# Altium footprint library CherryMXLED_Footprints.PCBLIB: 12 footprints
Each footprint in its own frame and in the unit in brackets; x right, y up, seen from the top. Pads: shape width x height; smd on the part's side, far side on the other; paste and mask are expansions set on the pad; w line width, h text height; cw(c..) or ccw(c..) is an arc to the next point about the centre after c.
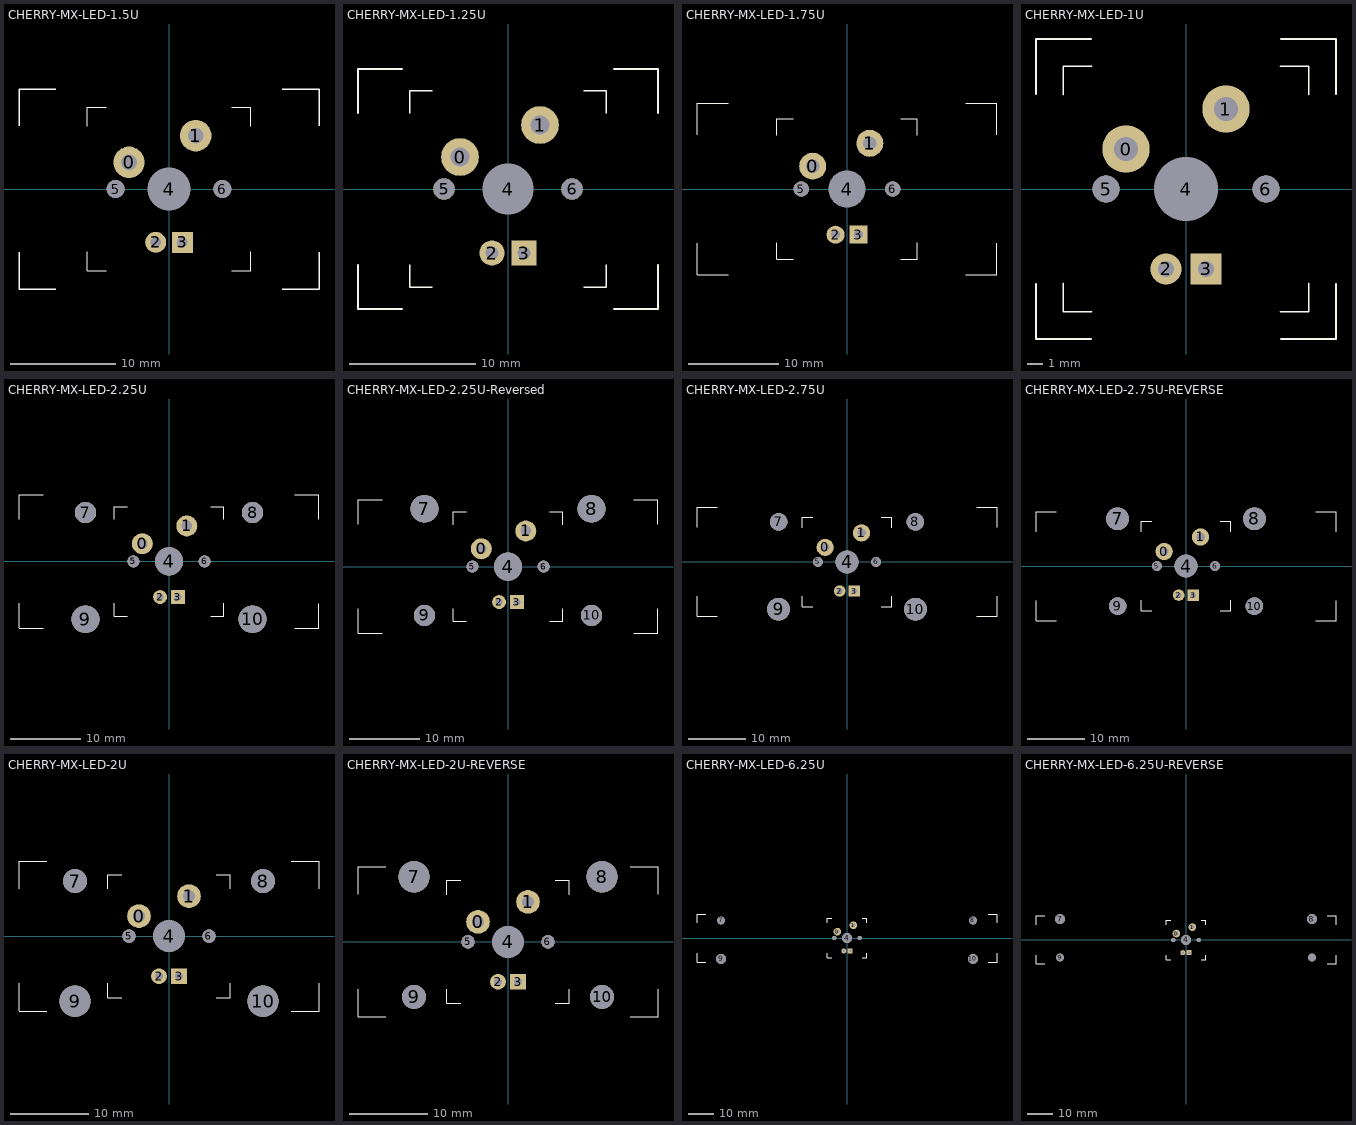
[diagram p0: the footprints below, top view; thin cyan lines are the x and y axes]

## CHERRY-MX-LED-1.5U [mm]
pads (7):
  round 3 hole 1.5: 0(-3.81,2.54) 1(2.54,5.08)
  round 2 hole 1: 2(-1.27,-5.08)
  rect 2x2 hole 1: 3(1.27,-5.08)
  round 4 hole 4.064 unplated mask+0: 4(0,0)
  round 1.702 hole 1.702 unplated mask+0: 5(-5.08,0) 6(5.08,0)
Top Overlay:
  lines w0.1: -7.8,-6 -7.8,-7.8 -6,-7.8 ; -7.8,6 -7.8,7.8 -6,7.8 ; 6,-7.8 7.8,-7.8 7.8,-6 ; 6,7.8 7.8,7.8 7.8,6
  lines w0.127: -14.287,-6.025 -14.287,-9.525 -10.787,-9.525 ; -14.287,6.025 -14.287,9.525 -10.787,9.525 ; 10.787,-9.525 14.287,-9.525 14.287,-6.025 ; 10.787,9.525 14.287,9.525 14.287,6.025

## CHERRY-MX-LED-1.25U [mm]
pads (7):
  round 3 hole 1.5: 0(-3.81,2.54) 1(2.54,5.08)
  round 2 hole 1: 2(-1.27,-5.08)
  rect 2x2 hole 1: 3(1.27,-5.08)
  round 4 hole 4.064 unplated mask+0: 4(0,0)
  round 1.702 hole 1.702 unplated mask+0: 5(-5.08,0) 6(5.08,0)
Top Overlay:
  lines w0.1: -7.8,-6 -7.8,-7.8 -6,-7.8 ; -7.8,6 -7.8,7.8 -6,7.8 ; 6,-7.8 7.8,-7.8 7.8,-6 ; 6,7.8 7.8,7.8 7.8,6
  lines w0.127: -11.906,-6.025 -11.906,-9.525 -8.406,-9.525 ; -11.906,6.025 -11.906,9.525 -8.406,9.525 ; 8.406,-9.525 11.906,-9.525 11.906,-6.025 ; 8.406,9.525 11.906,9.525 11.906,6.025

## CHERRY-MX-LED-1.75U [mm]
pads (7):
  round 3 hole 1.5: 0(-3.81,2.54) 1(2.54,5.08)
  round 2 hole 1: 2(-1.27,-5.08)
  rect 2x2 hole 1: 3(1.27,-5.08)
  round 4 hole 4.064 unplated mask+0: 4(0,0)
  round 1.702 hole 1.702 unplated mask+0: 5(-5.08,0) 6(5.08,0)
Top Overlay:
  lines w0.1: -7.8,-6 -7.8,-7.8 -6,-7.8 ; -7.8,6 -7.8,7.8 -6,7.8 ; 6,-7.8 7.8,-7.8 7.8,-6 ; 6,7.8 7.8,7.8 7.8,6
  lines w0.127: -16.669,-6.025 -16.669,-9.525 -13.169,-9.525 ; -16.669,6.025 -16.669,9.525 -13.169,9.525 ; 13.169,-9.525 16.669,-9.525 16.669,-6.025 ; 13.169,9.525 16.669,9.525 16.669,6.025

## CHERRY-MX-LED-1U [mm]
pads (7):
  round 3 hole 1.5: 0(-3.81,2.54) 1(2.54,5.08)
  round 2 hole 1: 2(-1.27,-5.08)
  rect 2x2 hole 1: 3(1.27,-5.08)
  round 4 hole 4.064 unplated mask+0: 4(0,0)
  round 1.702 hole 1.702 unplated mask+0: 5(-5.08,0) 6(5.08,0)
Top Overlay:
  lines w0.1: -7.8,-6 -7.8,-7.8 -6,-7.8 ; -7.8,6 -7.8,7.8 -6,7.8 ; 6,-7.8 7.8,-7.8 7.8,-6 ; 6,7.8 7.8,7.8 7.8,6
  lines w0.127: -9.525,-6.025 -9.525,-9.525 -6.025,-9.525 ; -9.525,6.025 -9.525,9.525 -6.025,9.525 ; 6.025,-9.525 9.525,-9.525 9.525,-6.025 ; 6.025,9.525 9.525,9.525 9.525,6.025

## CHERRY-MX-LED-2.25U [mil]
pads (11):
  round 118.11 hole 59.06: 0(-150,100) 1(100,200)
  round 78.74 hole 39.37: 2(-50,-200)
  rect 78.74x78.74 hole 39.37: 3(50,-200)
  round 157.48 hole 160 unplated mask+0: 4(0,0)
  round 67 hole 67 unplated mask+0: 5(-200,0) 6(200,0)
  round 120 hole 120 unplated paste+0 mask+0: 7(-470,275) 8(470,275)
  round 157 hole 157 unplated paste+0 mask+0: 9(-470,-325) 10(470,-325)
Top Overlay:
  lines w3.94: -307.09,-236.22 -307.09,-307.09 -236.22,-307.09 ; -307.09,236.22 -307.09,307.09 -236.22,307.09 ; 236.22,-307.09 307.09,-307.09 307.09,-236.22 ; 236.22,307.09 307.09,307.09 307.09,236.22
  lines w5: -843.75,-375 -705.95,-375 ; -843.75,-374.02 -843.75,-236.22 ; -843.75,237.2 -843.75,375 -705.95,375 ; 705.95,-375 843.75,-375 843.75,-237.2 ; 705.95,375 843.75,375 843.75,237.2

## CHERRY-MX-LED-2.25U-Reversed [mil]
pads (11):
  round 118.11 hole 59.06: 0(-150,100) 1(100,200)
  round 78.74 hole 39.37: 2(-50,-200)
  rect 78.74x78.74 hole 39.37: 3(50,-200)
  round 157.48 hole 160 unplated mask+0: 4(0,0)
  round 67 hole 67 unplated mask+0: 5(-200,0) 6(200,0)
  round 157 hole 157 unplated paste+0 mask+0: 7(-470,325) 8(470,325)
  round 120 hole 120 unplated paste+0 mask+0: 9(-470,-275) 10(470,-275)
Top Overlay:
  lines w3.94: -307.09,-236.22 -307.09,-307.09 -236.22,-307.09 ; -307.09,236.22 -307.09,307.09 -236.22,307.09 ; 236.22,-307.09 307.09,-307.09 307.09,-236.22 ; 236.22,307.09 307.09,307.09 307.09,236.22
  lines w5: -843.75,-375 -705.95,-375 ; -843.75,-374.02 -843.75,-236.22 ; -843.75,237.2 -843.75,375 -705.95,375 ; 705.95,-375 843.75,-375 843.75,-237.2 ; 705.95,375 843.75,375 843.75,237.2

## CHERRY-MX-LED-2.75U [mil]
pads (11):
  round 118.11 hole 59.06: 0(-150,100) 1(100,200)
  round 78.74 hole 39.37: 2(-50,-200)
  rect 78.74x78.74 hole 39.37: 3(50,-200)
  round 157.48 hole 160 unplated mask+0: 4(0,0)
  round 67 hole 67 unplated mask+0: 5(-200,0) 6(200,0)
  round 120 hole 120 unplated paste+0 mask+0: 7(-470,275) 8(470,275)
  round 157 hole 157 unplated paste+0 mask+0: 9(-470,-325) 10(470,-325)
Top Overlay:
  lines w3.94: -307.09,-236.22 -307.09,-307.09 -236.22,-307.09 ; -307.09,236.22 -307.09,307.09 -236.22,307.09 ; 236.22,-307.09 307.09,-307.09 307.09,-236.22 ; 236.22,307.09 307.09,307.09 307.09,236.22
  lines w5: -1031.25,-237.2 -1031.25,-375 -893.45,-375 ; -1031.25,237.2 -1031.25,375 -893.45,375 ; 893.45,-375 1031.25,-375 1031.25,-237.2 ; 893.45,375 1031.25,375 1031.25,237.2

## CHERRY-MX-LED-2.75U-REVERSE [mil]
pads (11):
  round 118.11 hole 59.06: 0(-150,100) 1(100,200)
  round 78.74 hole 39.37: 2(-50,-200)
  rect 78.74x78.74 hole 39.37: 3(50,-200)
  round 157.48 hole 160 unplated mask+0: 4(0,0)
  round 67 hole 67 unplated mask+0: 5(-200,0) 6(200,0)
  round 157 hole 157 unplated paste+0 mask+0: 7(-470,325) 8(470,325)
  round 120 hole 120 unplated paste+0 mask+0: 9(-470,-275) 10(470,-275)
Top Overlay:
  lines w3.94: -307.09,-236.22 -307.09,-307.09 -236.22,-307.09 ; -307.09,236.22 -307.09,307.09 -236.22,307.09 ; 236.22,-307.09 307.09,-307.09 307.09,-236.22 ; 236.22,307.09 307.09,307.09 307.09,236.22
  lines w5: -1031.25,-237.2 -1031.25,-375 -893.45,-375 ; -1031.25,237.2 -1031.25,375 -893.45,375 ; 893.45,-375 1031.25,-375 1031.25,-237.2 ; 893.45,375 1031.25,375 1031.25,237.2

## CHERRY-MX-LED-2U [mil]
pads (11):
  round 118.11 hole 59.06: 0(-150,100) 1(100,200)
  round 78.74 hole 39.37: 2(-50,-200)
  rect 78.74x78.74 hole 39.37: 3(50,-200)
  round 157.48 hole 160 unplated mask+0: 4(0,0)
  round 67 hole 67 unplated mask+0: 5(-200,0) 6(200,0)
  round 120 hole 120 unplated paste+0 mask+0: 7(-470,275) 8(470,275)
  round 157 hole 157 unplated paste+0 mask+0: 9(-470,-325) 10(470,-325)
Top Overlay:
  lines w3.94: -307.09,-236.22 -307.09,-307.09 -236.22,-307.09 ; -307.09,236.22 -307.09,307.09 -236.22,307.09 ; 236.22,-307.09 307.09,-307.09 307.09,-236.22 ; 236.22,307.09 307.09,307.09 307.09,236.22
  lines w5: -750,-375 -612.2,-375 ; -750,-374.02 -750,-236.22 ; -750,237.2 -750,375 -612.2,375 ; 612.2,-375 750,-375 ; 612.2,375 750,375 750,237.2 ; 750,-374.02 750,-236.22

## CHERRY-MX-LED-2U-REVERSE [mil]
pads (11):
  round 118.11 hole 59.06: 0(-150,100) 1(100,200)
  round 78.74 hole 39.37: 2(-50,-200)
  rect 78.74x78.74 hole 39.37: 3(50,-200)
  round 157.48 hole 160 unplated mask+0: 4(0,0)
  round 67 hole 67 unplated mask+0: 5(-200,0) 6(200,0)
  round 157 hole 157 unplated paste+0 mask+0: 7(-470,325) 8(470,325)
  round 120 hole 120 unplated paste+0 mask+0: 9(-470,-275) 10(470,-275)
Top Overlay:
  lines w3.94: -307.09,-236.22 -307.09,-307.09 -236.22,-307.09 ; -307.09,236.22 -307.09,307.09 -236.22,307.09 ; 236.22,-307.09 307.09,-307.09 307.09,-236.22 ; 236.22,307.09 307.09,307.09 307.09,236.22
  lines w5: -750,-375 -612.2,-375 ; -750,-374.02 -750,-236.22 ; -750,237.2 -750,375 -612.2,375 ; 612.2,-375 750,-375 ; 612.2,375 750,375 750,237.2 ; 750,-374.02 750,-236.22

## CHERRY-MX-LED-6.25U [mil]
pads (11):
  round 118.11 hole 59.06: 0(-150,100) 1(100,200)
  round 78.74 hole 39.37: 2(-50,-200)
  rect 78.74x78.74 hole 39.37: 3(50,-200)
  round 157.48 hole 160 unplated mask+0: 4(0,0)
  round 67 hole 67 unplated mask+0: 5(-200,0) 6(200,0)
  round 120 hole 120 unplated paste+0 mask+0: 7(-1968.5,275) 8(1968.5,275)
  round 157 hole 157 unplated paste+0 mask+0: 9(-1968.5,-325) 10(1968.5,-325)
Top Overlay:
  lines w3.94: -307.09,-236.22 -307.09,-307.09 -236.22,-307.09 ; -307.09,236.22 -307.09,307.09 -236.22,307.09 ; 236.22,-307.09 307.09,-307.09 307.09,-236.22 ; 236.22,307.09 307.09,307.09 307.09,236.22
  lines w5: -2343.75,-237.2 -2343.75,-375 -2205.95,-375 ; -2343.75,237.2 -2343.75,375 -2205.95,375 ; 2205.95,-375 2343.75,-375 2343.75,-237.2 ; 2205.95,375 2343.75,375 2343.75,237.2

## CHERRY-MX-LED-6.25U-REVERSE [mil]
pads (11):
  round 118.11 hole 59.06: 0(-150,100) 1(100,200)
  round 78.74 hole 39.37: 2(-50,-200)
  rect 78.74x78.74 hole 39.37: 3(50,-200)
  round 157.48 hole 160 unplated mask+0: 4(0,0)
  round 67 hole 67 unplated mask+0: 5(-200,0) 6(200,0)
  round 157 hole 157 unplated paste+0 mask+0: 7(-1968.5,325) 8(1968.5,325)
  round 120 hole 120 unplated paste+0 mask+0: 9(-1968.5,-275) 10(1968.5,-275)
Top Overlay:
  lines w3.94: -307.09,-236.22 -307.09,-307.09 -236.22,-307.09 ; -307.09,236.22 -307.09,307.09 -236.22,307.09 ; 236.22,-307.09 307.09,-307.09 307.09,-236.22 ; 236.22,307.09 307.09,307.09 307.09,236.22
  lines w5: -2343.75,-237.2 -2343.75,-375 -2205.95,-375 ; -2343.75,237.2 -2343.75,375 -2205.95,375 ; 2205.95,-375 2343.75,-375 2343.75,-237.2 ; 2205.95,375 2343.75,375 2343.75,237.2